# Altium footprint library Battery.PcbLib: 2 footprints
Each footprint in its own frame and in the unit in brackets; x right, y up, seen from the top. Pads: shape width x height; smd on the part's side, far side on the other; paste and mask are expansions set on the pad; w line width, h text height; cw(c..) or ccw(c..) is an arc to the next point about the centre after c.
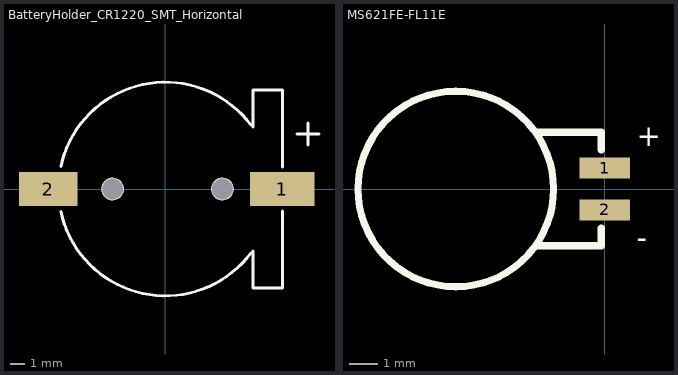
[diagram p0: the footprints below, top view; thin cyan lines are the x and y axes]

## BatteryHolder_CR1220_SMT_Horizontal [mm]
pads (2):
  rect 4.4x2.3 smd: 1(8,0)
  rect 4x2.3 smd: 2(-8,0)
via -3.6,0 diameter 1.5 hole 1.4
via 3.9,0 diameter 1.5 hole 1.4
Top Overlay:
  circle w0.152: c-3.6,0 r0.7
  circle w0.152: c3.9,0 r0.7
  lines w0.203: -7.133,-1.551 ccw(c0,0) 5.852,-4.364 ; -7.133,1.551 cw(c0,0) 5.852,4.364 ; 6,-4.25 6,-6.75 8,-6.75 8,-1.5 ; 6,4.25 6,6.75 8,6.75 8,1.5 ; 9,3.75 10.5,3.75 ; 9.75,3 9.75,4.5
3D body "User Library-cr1220.STEP": height 4.94, standoff 0, extent -9.25,-7.5 9.25,7.497

## MS621FE-FL11E [mm]
pads (2):
  rect 1.8x0.75 smd: 1(0,0.75) 2(0,-0.75)
Top Overlay:
  circle w0.254: c-5.334,0 r3.5
  lines w0.254: -2.413,-2.032 -0.127,-2.032 -0.127,-1.397 ; -2.413,2.032 -0.127,2.032 -0.127,1.397
  text "+" at 1.143,1.524 h0.76
  text "-" at 1.143,-1.524 h0.76
3D body "battery.step": height 2.69, standoff -0.01, extent -8.65,-3.4 0.65,3.4